# EAGLE library part MCP4902 (library ElectricNoodleBox)
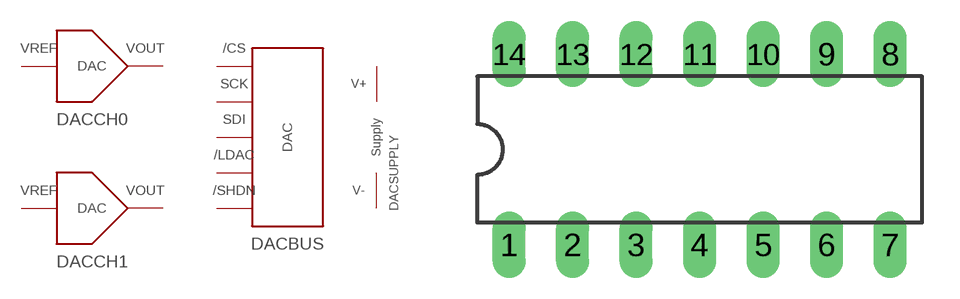
[diagram p29: symbol with the pads of DIL14; footprint DIL14]

Designator prefix DAC; gates CH0=DAC CH1=DAC BUS=MCP4902_BUS SUPPLY=SUPPLYPINS

## MCP4902  [DIL14]
1  SUPPLY:V+
3  BUS:/CS  in
4  BUS:SCK  in
5  BUS:SDI  in
8  BUS:/LDAC  in
9  BUS:/SHDN  in
10  CH1:VOUT  out
11  CH1:VREF  in
12  SUPPLY:V-
13  CH0:VREF  in
14  CH0:VOUT  out

## Footprint DIL14 (pad centres in mm)
Dual In Line Package
drill 0.813 long: 1 -7.62,-3.81; 2 -5.08,-3.81; 3 -2.54,-3.81; 4 0,-3.81; 5 2.54,-3.81; 6 5.08,-3.81; 7 7.62,-3.81; 8 7.62,3.81; 9 5.08,3.81; 10 2.54,3.81; 11 0,3.81; 12 -2.54,3.81; 13 -5.08,3.81; 14 -7.62,3.81